# EAGLE library part JST-XH-12 (library con-JST-XH)
JST-XH 4-way vertical TH
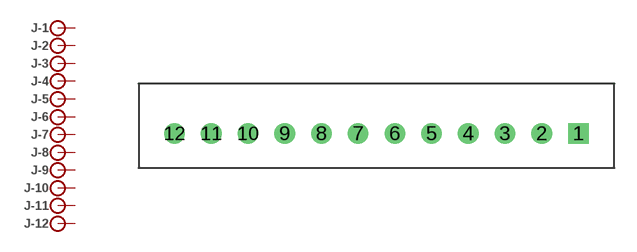
[diagram p3: symbol with the pads of B12B-XH-A; footprint B12B-XH-A]

Designator prefix J; gates -1=PIN -2=PIN -3=PIN -4=PIN -5=PIN -6=PIN -7=PIN -8=PIN -9=PIN -10=PIN -11=PIN -12=PIN

## JST-XH-12 (MF: JST; MPN: B12B-XH-A)  [B12B-XH-A]
1  -1:P
2  -2:P
3  -3:P
4  -4:P
5  -5:P
6  -6:P
7  -7:P
8  -8:P
9  -9:P
10  -10:P
11  -11:P
12  -12:P

## Footprint B12B-XH-A (pad centres in mm)
JST-XH (2.5mm) 12-pin through-hole vertical Wire-Board Connector
drill 0.9 square: 1 13.75,0
drill 0.9: 2 11.25,0; 3 8.75,0; 4 6.25,0; 5 3.75,0; 6 1.25,0; 7 -1.25,0; 8 -3.75,0; 9 -6.25,0; 10 -8.75,0; 11 -11.25,0; 12 -13.75,0